# Altium schematic symbol library FAN3223CMX.SchLib: 1 symbol
Pins are listed as number, name and electrical type; pins without a type are passive.

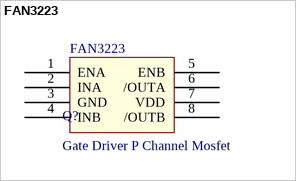
[diagram p0: symbol FAN3223]

## FAN3223
designator Q?, comment Gate Driver P Channel Mosfet  value FAN3223
ComponentLink1Description: New link; ComponentLink1URL: *
footprint FAN3223 (Gate Driver P Channel)
pins: 1 ENA, 2 INA, 3 GND, 4 INB, 5 ENB, 6 /OUTA, 7 VDD, 8 /OUTB